# Altium schematic symbol library NCP189CMTW330TAG.SchLib: 1 symbol
Pins are listed as number, name and electrical type; pins without a type are passive.

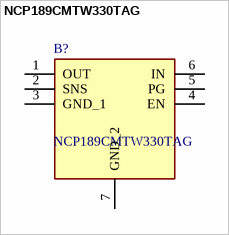
[diagram p0: symbol NCP189CMTW330TAG]

## NCP189CMTW330TAG
designator B?
1.6V to 5.5V input voltage; Output voltage from 0.6V; Controlled output voltage slew rate; PSRR: 85 dB at 1 kHz; Low dropout 65mV ar 3.3V / 500mA; Ultra-Low Noise: 10VRMS; WDFNW6 2 x 2mm; Manufacturer_Name: onsemi; Geometry.Height: 0.8mm; Mouser Part Number: 863-NCP189CMTW330TAG; Mouser Price/Stock: https://www.mouser.co.uk/ProductDetail/onsemi/NCP189CMTW330TAG?qs=vvQtp7zwQdPaFxDy4thwxQ%3D%3D; Manufacturer_Part_Number: NCP189CMTW330TAG; Datasheet Link: https://www.onsemi.com/pub/Collateral/NCP189-D.PDF
footprint SON65P200X200X80-7N
pins: 1 OUT, 2 SNS, 3 GND_1, 4 EN, 5 PG, 6 IN, 7 GND_2